# EAGLE library part AC5013 (library pavlo)
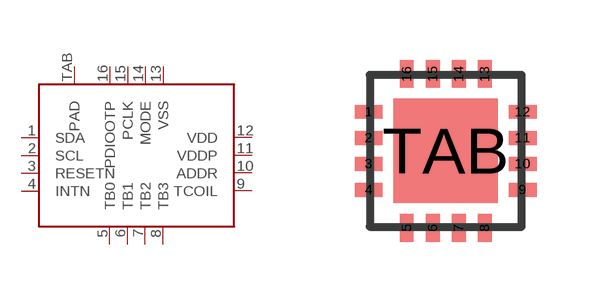
[diagram p5: symbol with the pads of QFN16; footprint QFN16]

Designator prefix -

## AC5013  [QFN16]
1  SDA
2  SCL
3  RESETN
4  INTN
5  TB0
6  TB1
7  TB2
8  TB3
9  TCOIL
10  ADDR
11  VDDP
12  VDD
13  VSS
14  MODE
15  PCLK
16  PDIOOTP
TAB  PAD

## Footprint QFN16 (pad centres in mm)
QFN-16 4 x 4 mm Source: Data sheet <http://www.ftdichip.com/Support/Documents/DataSheets/ICs/DS_FT230X.pdf>
smd 0.7 x 0.35: 1 -1.925,0.975; 2 -1.925,0.325; 3 -1.925,-0.325; 4 -1.925,-0.975; 9 1.925,-0.975; 10 1.925,-0.325; 11 1.925,0.325; 12 1.925,0.975
smd 0.35 x 0.7: 5 -0.975,-1.925; 6 -0.325,-1.925; 7 0.325,-1.925; 8 0.975,-1.925; 13 0.975,1.925; 14 0.325,1.925; 15 -0.325,1.925; 16 -0.975,1.925
smd 2.6 x 2.6: TAB 0,0